# EAGLE library part WS2813 (library LEDs)
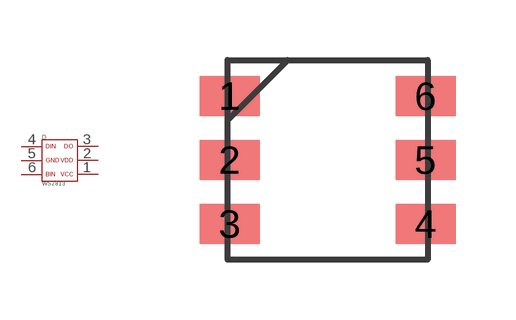
[diagram p2: symbol with the pads of WS2813; footprint WS2813]

Designator prefix D

## WS2813  [WS2813]
1  1  pas
2  2  pas
3  3  pas
4  4  pas
5  5  pas
6  6  pas

## Footprint WS2813 (pad centres in mm)
smd 1.5 x 1: 1 -2.45,1.6; 2 -2.45,0; 3 -2.45,-1.6; 4 2.45,-1.6; 5 2.45,0; 6 2.45,1.6